# EAGLE library part 1050170001 (library 1050170001)
Conn.; Data; USB; Recept.; Micro; B Type; Bottom Mount, SMT, with Solder Tabs, Lead-Free
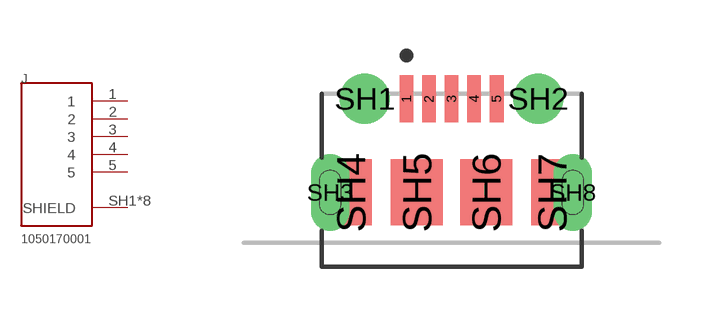
[diagram p0: symbol with the pads of MOLEX_1050170001; footprint MOLEX_1050170001]

Designator prefix J

## 1050170001 (Availability: Unavailable; Description: Conn.; Data; USB; Recept.; Micro; B Type; Bottom Mount, SMT, with Solder Tabs, Lead-Free; MF: Molex; MP: 1050170001; Package: None; Price: None)  [MOLEX_1050170001]
1  1  pas
2  2  pas
3  3  pas
4  4  pas
5  5  pas
SH1  SHIELD  pas
SH2  SHIELD  pas
SH3  SHIELD  pas
SH4  SHIELD  pas
SH5  SHIELD  pas
SH6  SHIELD  pas
SH7  SHIELD  pas
SH8  SHIELD  pas

## Footprint MOLEX_1050170001 (pad centres in mm)
smd 0.4 x 1.35: 1 -1.3,2.35; 2 -0.65,2.35; 3 0,2.35; 4 0.65,2.35; 5 1.3,2.35
drill 0.85 pad 1.45: SH1 -2.5,2.35; SH2 2.5,2.35
drill 0.6 pad 0.95 long: SH3 -3.5,-0.35; SH8 3.5,-0.35
smd 1.2 x 1.9: SH4 -2.9,-0.35; SH7 2.9,-0.35
smd 1.5 x 1.9: SH5 -1,-0.35; SH6 1,-0.35